# Altium footprint library SparkFun_IMU_Breakout_ICM-20948.PcbLib: 48 footprints (part 1 of 3)
Each footprint in its own frame and in the unit in brackets; x right, y up, seen from the top. Pads: shape width x height; smd on the part's side, far side on the other; paste and mask are expansions set on the pad; w line width, h text height; cw(c..) or ccw(c..) is an arc to the next point about the centre after c.
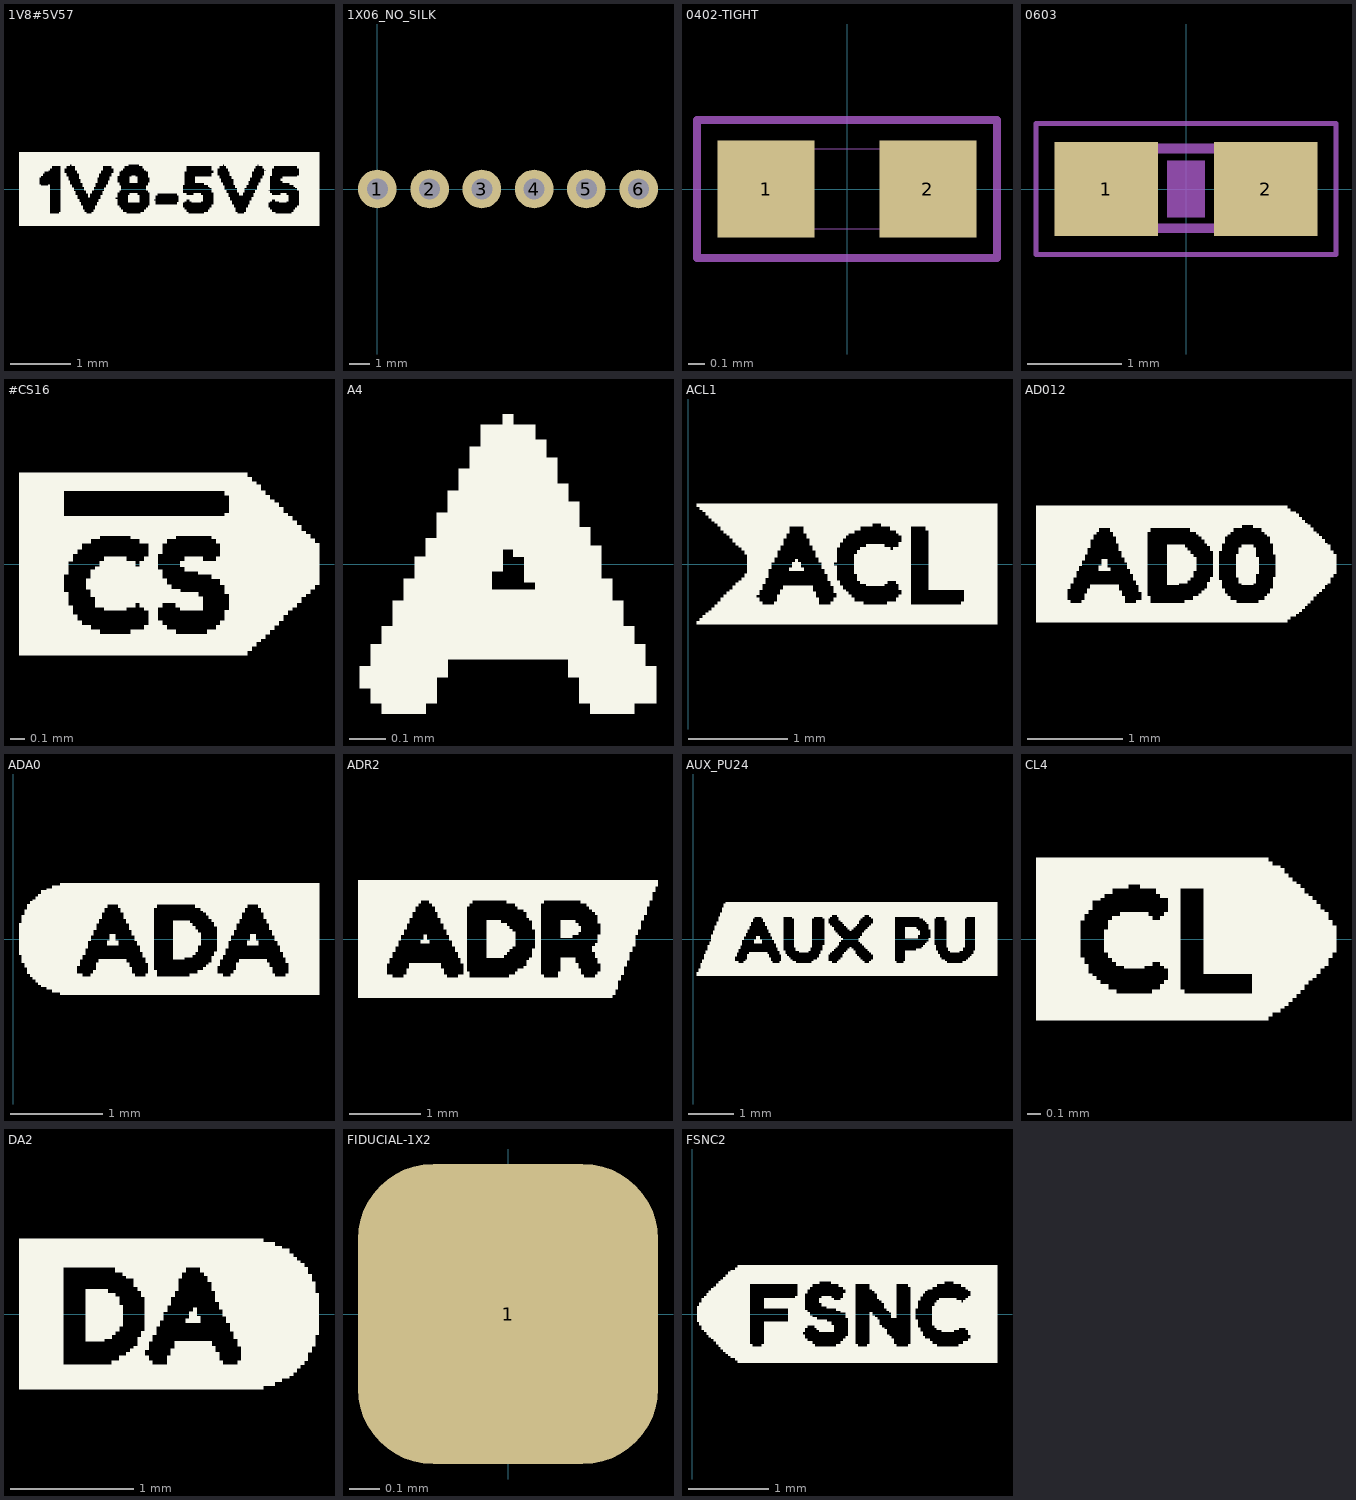
[diagram p0: the footprints below, top view; thin cyan lines are the x and y axes]

## 1V8#5V57 [mm]
F.SilkS:
  drawing of 256 lines, arcs and shapes, not listed

## 1X06_NO_SILK [mil]
pads (6):
  round 74 hole 40: 1(0,0) 2(100,0) 3(200,0) 4(300,0) 5(400,0) 6(500,0)
F.Fab:
  region: 10,-10 -10,-10 -10,10 10,10
  region: 310,-10 290,-10 290,10 310,10
  region: 410,-10 390,-10 390,10 410,10
  region: 210,-10 190,-10 190,10 210,10
  region: 510,-10 490,-10 490,10 510,10
  region: 110,-10 90,-10 90,10 110,10

## 0402-TIGHT [mm]
pads (2):
  rect 0.6x0.6 smd: 1(-0.5,0) 2(0.5,0)
F.Fab:
  region: -0.3,-0.25 -0.5,-0.25 -0.5,0.25 -0.3,0.25
  region: 0.5,-0.25 0.3,-0.25 0.3,0.25 0.5,0.25
  lines w0.003: -0.5,-0.25 0.5,-0.25 0.5,0.25 -0.5,0.25 -0.5,-0.25
F.CrtYd:
  lines w0.05: -0.926,-0.426 0.926,-0.426 0.926,0.426 -0.926,0.426 -0.926,-0.426

## 0603 [mm]
pads (2):
  rect 1.1x1 smd: 1(-0.85,0) 2(0.85,0)
F.Fab:
  region: 0.83,-0.47 0.33,-0.47 0.33,0.48 0.83,0.48
  region: -0.338,-0.47 -0.838,-0.47 -0.838,0.48 -0.338,0.48
  lines w0.102: -0.356,-0.419 0.356,-0.419 ; -0.356,0.432 0.356,0.432
F.CrtYd:
  lines w0.051: -1.6,-0.7 1.6,-0.7 1.6,0.7 -1.6,0.7 -1.6,-0.7
F.Adhes:
  region: 0.2,-0.3 -0.2,-0.3 -0.2,0.3 0.2,0.3

## #CS16 [mm]
F.SilkS:
  drawing of 98 lines, arcs and shapes, not listed

## A4 [mm]
F.SilkS:
  region: 1.29,0.1 0.9,0.1 0.9,0.14 1.29,0.14
  region: 1.26,0.19 0.96,0.19 0.96,0.22 1.26,0.22
  region: 1.41,-0.17 0.78,-0.17 0.78,-0.14 1.41,-0.14
  region: 1.26,0.17 0.93,0.17 0.93,0.2 1.26,0.2
  region: 1.11,0.38 1.08,0.38 1.08,0.41 1.11,0.41
  region: 1.35,-0.02 1.14,-0.02 1.14,0.02 1.35,0.02
  region: 1.5,-0.38 1.29,-0.38 1.29,-0.34 1.5,-0.34
  region: 1.44,-0.22 0.75,-0.22 0.75,-0.19 1.44,-0.19
  region: 1.44,-0.41 1.32,-0.41 1.32,-0.38 1.44,-0.38
  region: 0.93,-0.31 0.69,-0.31 0.69,-0.28 0.93,-0.28
  region: 1.2,0.31 1.02,0.31 1.02,0.34 1.2,0.34
  region: 1.5,-0.34 1.29,-0.34 1.29,-0.31 1.5,-0.31
  region: 1.08,-0.02 0.84,-0.02 0.84,0.02 1.08,0.02
  region: 1.35,-0.05 1.14,-0.05 1.14,-0.02 1.35,-0.02
  region: 1.5,-0.31 1.26,-0.31 1.26,-0.28 1.5,-0.28
  region: 1.05,-0.07 0.81,-0.07 0.81,-0.04 1.05,-0.04
  region: 1.23,0.26 0.99,0.26 0.99,0.29 1.23,0.29
  region: 1.08,0.02 0.87,0.02 0.87,0.05 1.08,0.05
  region: 0.9,-0.34 0.69,-0.34 0.69,-0.31 0.9,-0.31
  region: 1.35,0.02 1.11,0.02 1.11,0.05 1.35,0.05
  region: 1.32,0.04 0.87,0.04 0.87,0.07 1.32,0.07
  region: 1.47,-0.26 0.72,-0.26 0.72,-0.22 1.47,-0.22
  region: 1.2,0.29 0.99,0.29 0.99,0.32 1.2,0.32
  region: 0.9,-0.38 0.72,-0.38 0.72,-0.34 0.9,-0.34
  region: 0.87,-0.41 0.75,-0.41 0.75,-0.38 0.87,-0.38
  region: 1.05,-0.05 0.84,-0.05 0.84,-0.02 1.05,-0.02
  region: 0.93,-0.29 0.72,-0.29 0.72,-0.26 0.93,-0.26
  region: 1.23,0.22 0.96,0.22 0.96,0.26 1.23,0.26
  region: 1.32,0.07 0.9,0.07 0.9,0.1 1.32,0.1
  region: 1.17,0.34 1.02,0.34 1.02,0.38 1.17,0.38
  region: 1.41,-0.14 0.78,-0.14 0.78,-0.1 1.41,-0.1
  region: 1.44,-0.2 0.75,-0.2 0.75,-0.17 1.44,-0.17
  region: 1.29,0.14 0.93,0.14 0.93,0.17 1.29,0.17
  region: 1.38,-0.07 1.17,-0.07 1.17,-0.04 1.38,-0.04
  region: 1.38,-0.1 0.81,-0.1 0.81,-0.07 1.38,-0.07
  region: 1.47,-0.29 1.26,-0.29 1.26,-0.26 1.47,-0.26

## ACL1 [mm]
F.SilkS:
  drawing of 134 lines, arcs and shapes, not listed

## AD012 [mm]
F.SilkS:
  drawing of 158 lines, arcs and shapes, not listed

## ADA0 [mm]
F.SilkS:
  drawing of 153 lines, arcs and shapes, not listed

## ADR2 [mm]
F.SilkS:
  drawing of 156 lines, arcs and shapes, not listed

## AUX_PU24 [mm]
F.SilkS:
  drawing of 246 lines, arcs and shapes, not listed

## CL4 [mm]
F.SilkS:
  drawing of 98 lines, arcs and shapes, not listed

## CREATIVE_COMMONS [mm]
F.Fab:
  text "HTTPS://CREATIVECOMMONS.ORG/LICENSES/BY-SA/4.0/" at 0,2.072 h1.64
  text "DESIGNED BY:" at 11.43,-0.466 h1.64
  text "RELEASED UNDER THE CREATIVE COMMONS ATTRIBUTION SHARE-ALIKE 4.0 LICENSE" at -20.32,4.612 h1.64

## DA2 [mm]
F.SilkS:
  drawing of 117 lines, arcs and shapes, not listed

## FIDUCIAL-1X2 [mm]
pads (1):
  rrect50% 1x1 smd: 1(0,0)

## FSNC2 [mm]
F.SilkS:
  drawing of 184 lines, arcs and shapes, not listed